# EAGLE library part MA10-1-THIN (library yb-library)
PIN HEADER
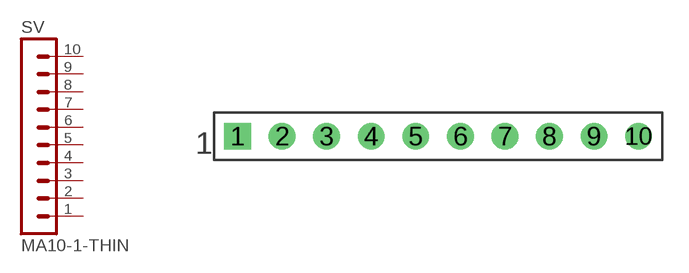
[diagram p19: symbol with the pads of MA10-1-THIN; footprint MA10-1-THIN]

Designator prefix SV

## MA10-1-THIN  [MA10-1-THIN]
1  1  pas
2  2  pas
3  3  pas
4  4  pas
5  5  pas
6  6  pas
7  7  pas
8  8  pas
9  9  pas
10  10  pas

## Footprint MA10-1-THIN (pad centres in mm)
PIN HEADER
drill 0.914 pad 1.524 square: 1 -10.16,0
drill 0.914 pad 1.524: 2 -7.62,0; 3 -5.08,0; 4 -2.54,0; 5 0,0; 6 2.54,0; 7 5.08,0; 8 7.62,0; 9 10.16,0; 10 12.7,0